# Altium schematic symbol library INDUCTOR.SchLib: 1 symbol
Pins are listed as number, name and electrical type; pins without a type are passive.

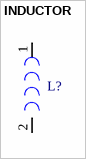
[diagram p0: symbol INDUCTOR]

## INDUCTOR
designator L?
IND WW PWR 1.5uH@1MHZ 2A 20% 2520
pins: 1, 2